# EAGLE library part 218-4LPST (library SSI)
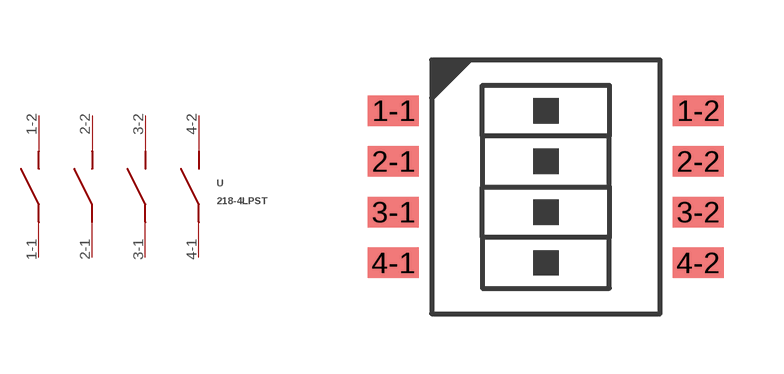
[diagram p30: symbol with the pads of 218-4LPST; footprint 218-4LPST]

Designator prefix -

## 218-4LPST  [218-4LPST]
1-1  P$1
1-2  P$8
2-1  P$2
2-2  P$7
3-1  P$3
3-2  P$6
4-1  P$4
4-2  P$5

## Footprint 218-4LPST (pad centres in mm)
4 Pin CTS DIP Switch
smd 1.27 x 0.762: 1-1 0,0; 1-2 7.62,0; 2-1 0,-1.27; 2-2 7.62,-1.27; 3-1 0,-2.54; 3-2 7.62,-2.54; 4-1 0,-3.81; 4-2 7.62,-3.81